# Altium schematic symbol library Schlib1.SchLib: 19 symbols
Pins are listed as number, name and electrical type; pins without a type are passive.

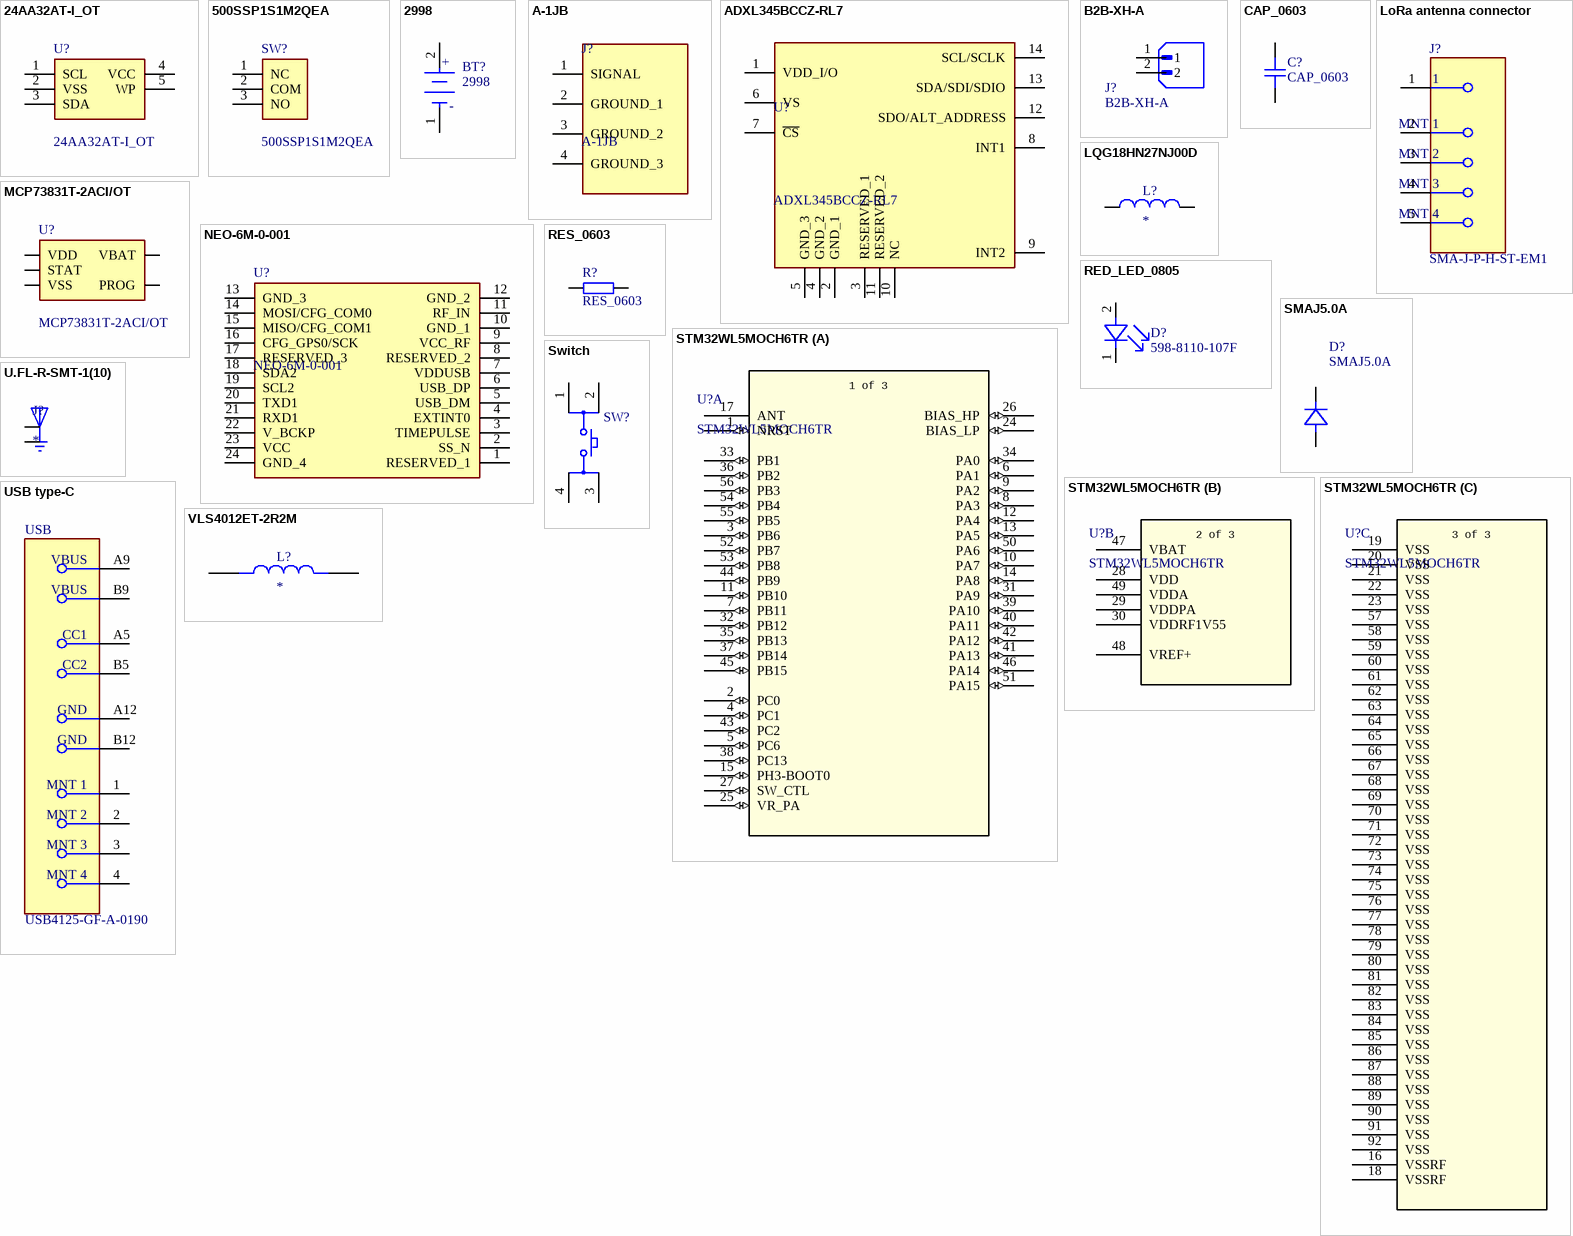
[diagram p0: symbols 24AA32AT-I_OT to VLS4012ET-2R2M]

## 24AA32AT-I_OT
designator U?
Microchip 24AA32AT-I/OT Serial EEPROM Memory, 32kbit, 1000ns, 1.7  5.5 V 5-Pin SOT-23; Geometry.Height: 1.45mm; Manufacturer_Name: Microchip; Manufacturer_Part_Number: 24AA32AT-I/OT; Mouser Part Number: 579-24AA32AT-I/OT; Mouser Price/Stock: https://www.mouser.co.uk/ProductDetail/Microchip-Technology/24AA32AT-I-OT?qs=WqWCsLCZBkoI2hN6jgMPOQ%3D%3D; Arrow Part Number: 24AA32AT-I/OT; Arrow Price/Stock: https://www.arrow.com/en/products/24aa32at-iot/microchip-technology?utm_currency=USD&region=nac; Datasheet Link: http://ww1.microchip.com/downloads/en/DeviceDoc/21713M.pdf
footprint SOT95P270X145-5N
pins: 1 SCL, 2 VSS, 3 SDA, 4 VCC, 5 WP

## 500SSP1S1M2QEA
designator SW?
SLIDE, 5A, 120VAC/28VDC SPDT, On-On Through Hole; Manufacturer_Name: E-Switch; Geometry.Height: 11.43mm; Manufacturer_Part_Number: 500SSP1S1M2QEA; Mouser Part Number: 612-500-A121; Mouser Price/Stock: https://www.mouser.co.uk/ProductDetail/E-Switch/500SSP1S1M2QEA?qs=rR7wk9eDIwofjM3j2mZRnA%3D%3D; Arrow Part Number: *; Arrow Price/Stock: *; Datasheet Link: https://configured-product-images.s3.amazonaws.com/2D/specs/500SSP1S1M2QEA.pdf
footprint 500SSP1S1M2QEA
pins: 1 NC, 2 COM, 3 NO

## 2998
designator BT?
BATTERY RETAINER COIN 6.8MM SMD; Number of Batteries: 1; Package Quantity: 100; Mount: Surface Mount; Case/Package: SMD/SMT; Number of Cells: 1; REACH SVHC: No SVHC; Height: 2.9mm; Contact Material: Bronze; Material: Bronze; Lead Free: Lead Free; Termination: SMD/SMT; Color: Silver
footprint BAT_2998TR
pins: 1 C, 2 A
text: +; -

## A-1JB
designator J?
U.FL (UMCC), AMC Connector Jack, Male Pin 50 Ohms Surface Mount Solder; Manufacturer_Name: Amphenol RF; Geometry.Height: 1.35mm; Manufacturer_Part_Number: A-1JB; Mouser Part Number: 523-A-1JB; Mouser Price/Stock: https://www.mouser.co.uk/ProductDetail/Amphenol-RF/A-1JB?qs=ncxkyCpAYDBidtvTkuzl1Q%3D%3D; Arrow Part Number: A-1JB; Arrow Price/Stock: https://www.arrow.com/en/products/a-1jb/amphenol-rf?utm_currency=USD&region=europe; Datasheet Link: https://s3-us-west-2.amazonaws.com/catsy.582/ca-1jb.pdf
footprint A1JB
pins: 1 SIGNAL, 2 GROUND_1, 3 GROUND_2, 4 GROUND_3

## ADXL345BCCZ-RL7
designator U?
ADXL345BCCZ-RL7 Analog Devices, 3-Axis Accelerometer, I2C, SPI, 14-Pin LGA 0.3 V to +3.9 V 40C to +105C; Geometry.Height: 1mm; Manufacturer_Name: Analog Devices; Manufacturer_Part_Number: ADXL345BCCZ-RL7; Mouser Part Number: 584-ADXL345BCCZ-R7; Mouser Price/Stock: https://www.mouser.co.uk/ProductDetail/Analog-Devices/ADXL345BCCZ-RL7?qs=WIvQP4zGaninp9Gc%252BCsJzQ%3D%3D; Arrow Part Number: ADXL345BCCZ-RL7; Arrow Price/Stock: https://www.arrow.com/en/products/adxl345bccz-rl7/analog-devices?utm_currency=USD&region=nac; Datasheet Link: https://www.analog.com/media/en/technical-documentation/data-sheets/adxl345.pdf
footprint ADXL345BCCZRL7
pins: 1 VDD_I/O, 2 GND_1, 3 RESERVED_1, 4 GND_2, 5 GND_3, 6 VS, 7 ~{CS}, 8 INT1, 9 INT2, 10 NC, 11 RESERVED_2, 12 SDO/ALT_ADDRESS, 13 SDA/SDI/SDIO, 14 SCL/SCLK

## B2B-XH-A
designator J?
MF: {'manufacturer': u'JST Sales America Inc.'}; Package: None; Price: None; Value: *; MP: B2B-XH-A; Availability: Unavailable
footprint JST_B2B-XH-A
pins: 1, 2

## CAP_0603
designator C?
Ceramic Capacitor SMD 0603; Manufacturer: *; Manufacturer Part Number: *; Distributor Link: *; LCSC: *; Rating: *; Dielectric: *
footprint CAP_0603
pins: 1, 2

## LoRa antenna connector
designator J?, comment SMA-J-P-H-ST-EM1
CONN SMA JACK STR 50OHM EDGE MNT, Use the ANT-SS900; Dielectric Material: PTFE; Center Contact Plating: Gold; Max Frequency: 6GHz; Body Material: Brass; Voltage Rating: 335V; Impedance: 50R; Package Quantity: 1; Case/Package: SMA; Max Operating Temperature: 125°C; Fastening Type: Threaded; Orientation: Straight; Depth: 13.33mm; RoHS Compliant: Yes; Length: 6.35mm; Insulation Material: Polytetrafluoroethylene; Termination: Solder; Min Operating Temperature: -65°C; Housing Color: Gold; Contact Plating: Gold; Contact Material: Copper; Connector Type: SMA; Mount: Edge; Series: SMA; Packaging: Tray; Body Plating: Gold; Radiation Hardening: No
footprint FP-SMA-J-P-H-ST-EM1-MFG
pins: 1, 2 MNT 1, 3 MNT 2, 4 MNT 3, 5 MNT 4

## LQG18HN27NJ00D
designator L?
Ind RF Chip Multi-Layer 27nH 5% 100MHz 12Q-Factor Air 300mA 0603 Paper T/R; MP: LQG18HN27NJ00D; Package: None; Price: None; Value: *; Availability: Unavailable
footprint CAP_0603
pins: 1, 2

## MCP73831T-2ACI/OT
designator U?
Li-Ion Charge Controller 4.2V SOT23-5; Manufacturer_Name: Microchip; Geometry.Height: 1.45mm; Mouser Part Number: 579-MCP73831T-2ACIOT; Mouser Price/Stock: https://www.mouser.co.uk/ProductDetail/Microchip-Technology/MCP73831T-2ACI-OT?qs=yUQqVecv4qvbBQBGbHx0Mw%3D%3D; Manufacturer_Part_Number: MCP73831T-2ACI/OT; Datasheet Link: http://ww1.microchip.com/downloads/en/DeviceDoc/20001984g.pdf
footprint SOT95P270X145-5N
pins: 1 STAT, 2 VSS, 3 VBAT, 4 VDD, 5 PROG

## NEO-6M-0-001
designator U?
GPS Module; Manufacturer_Name: u-blox; Geometry.Height: 2.6mm; Manufacturer_Part_Number: NEO-6M-0-001; Mouser Part Number: *; Mouser Price/Stock: *; Arrow Part Number: *; Arrow Price/Stock: *; Datasheet Link: https://www.u-blox.com/sites/default/files/products/documents/NEO-6_DataSheet_%28GPS.G6-HW-09005%29.pdf
footprint NEO6M0001
pins: 1 RESERVED_1, 2 SS_N, 3 TIMEPULSE, 4 EXTINT0, 5 USB_DM, 6 USB_DP, 7 VDDUSB, 8 RESERVED_2, 9 VCC_RF, 10 GND_1, 11 RF_IN, 12 GND_2, 13 GND_3, 14 MOSI/CFG_COM0, 15 MISO/CFG_COM1, 16 CFG_GPS0/SCK, 17 RESERVED_3, 18 SDA2, 19 SCL2, 20 TXD1, 21 RXD1, 22 V_BCKP, 23 VCC, 24 GND_4

## RED_LED_0805
designator D?, comment 598-8110-107F
598-8110-107F 598-8110-107F, Dialight, SMD LED 0805 Package, Red Single color SOLD IN INCREMENTS OF 4000. (REEL); NexarPartId: 868569; Wavelength: 635nm; Forward Current: 20mA; Lens Style: Clear; Forward Voltage: 2.2V; Power Dissipation: 60mW; Max Junction Temperature (Tj): 105°C; Luminous Intensity: 40mcd; Viewing Angle: 140°; Reverse Voltage: 5V; Number of LEDs: 1; Number of Pins: 2; Schedule B: 8541402000, 8541402000|8541402000, 8541402000|8541402000|8541402000, 8541402000|8541402000|8541402000|8541402000; Length: 2mm; Width: 1.25mm; Mount: Surface Mount; Height: 800µm; Case Code (Imperial): 0805; Case Code (Metric): 2012; RoHS: Compliant; Min Operating Temperature: -30°C; Color: Red; Case/Package: 0805; Depth: 1.25mm; Lead Free: Lead Free; Max Operating Temperature: 85°C; Test Current: 20mA; Illumination Color: Red; Number of Elements: 1; Dominant Wavelength: 635nm; REACH SVHC: No SVHC; Radiation Hardening: No
footprint RED_LED_0805
pins: 1 C, 2 A

## RES_0603
designator R?
Resistor SMD 0603; Manufacturer: *; Manufacturer Part Number: *; Distributor Link: *; LCSC: *
footprint RES_0603
pins: 1, 2

## SMAJ5.0A
designator D?
ESD Protection Diode; Manufacturer_Name: Littelfuse Inc; Copyright: Copyright (C) 2025 Ultra Librarian. All rights reserved.; Manufacturer_Part_Number: SMAJ5.0A
footprint SMASeries_LTF-M
pins: 1, 2

## STM32WL5MOCH6TR
designator U?
Multiprotocol LPWAN dual-core module 32-bit Arm Cortex-M4/M0+ LoRa,(G)FSK, (G)MSK, BPSK; Manufacturer_Name: STMicroelectronics; Copyright: Copyright (C) 2026 Ultra Librarian. All rights reserved.; Manufacturer_Part_Number: STM32WL5MOCH6TR; Datasheet: https://www.st.com/resource/en/datasheet/stm32wl5moc.pdf; RefDes: RefDes; Type: Type
footprint LGA-92_10X10_STM
part A pins: 1 NRST (io), 2 PC0 (io), 3 PB6 (io), 4 PC1 (io), 5 PC6 (io), 6 PA1 (io), 7 PB11 (io), 8 PA3 (io), 9 PA2 (io), 10 PA7 (io), 11 PB10 (io), 12 PA4 (io), 13 PA5 (io), 14 PA8 (io), 15 PH3-BOOT0 (io), 17 ANT, 24 BIAS_LP (io), 25 VR_PA (io), 26 BIAS_HP (io), 27 SW_CTL (io), 31 PA9 (io), 32 PB12 (io), 33 PB1 (io), 34 PA0 (io), 35 PB13 (io), 36 PB2 (io), 37 PB14 (io), 38 PC13 (io), 39 PA10 (io), 40 PA11 (io), 41 PA13 (io), 42 PA12 (io), 43 PC2 (io), 44 PB9 (io), 45 PB15 (io), 46 PA14 (io), 50 PA6 (io), 51 PA15 (io), 52 PB7 (io), 53 PB8 (io), 54 PB4 (io), 55 PB5 (io), 56 PB3 (io)
part B pins: 28 VDD (power), 29 VDDPA (power), 30 VDDRF1V55 (power), 47 VBAT (power), 48 VREF+ (power), 49 VDDA (power)
part C pins: 16 VSSRF (power), 18 VSSRF (power), 19 VSS (power), 20 VSS (power), 21 VSS (power), 22 VSS (power), 23 VSS (power), 57 VSS (power), 58 VSS (power), 59 VSS (power), 60 VSS (power), 61 VSS (power), 62 VSS (power), 63 VSS (power), 64 VSS (power), 65 VSS (power), 66 VSS (power), 67 VSS (power), 68 VSS (power), 69 VSS (power), 70 VSS (power), 71 VSS (power), 72 VSS (power), 73 VSS (power), 74 VSS (power), 75 VSS (power), 76 VSS (power), 77 VSS (power), 78 VSS (power), 79 VSS (power), 80 VSS (power), 81 VSS (power), 82 VSS (power), 83 VSS (power), 84 VSS (power), 85 VSS (power), 86 VSS (power), 87 VSS (power), 88 VSS (power), 89 VSS (power), 90 VSS (power), 91 VSS (power), 92 VSS (power)
part A text: 1 of 3
part B text: 2 of 3
part C text: 3 of 3

## Switch
designator SW?, comment TL3301AF160QG  (value not drawn)
SWITCH TACTILE SPST-NO 0.05A 12V; Actuator Type: Standard; Current Rating: 50mA; Contact Resistance: 100mR; Max Voltage Rating (DC): 50V; Actuator Length: 1.4mm; Electrical Life: 100000Cycles; Throw Configuration: SPST; Switch Travel: 0.25mm; Operating Force: 160gf; Switch Function: Off-Mom; Actuator Material: Nylon; Illumination Type: Non-Illuminated; Orientation: Straight; Lead Free: Lead Free; Contact Material: Silver; Series: TL3301; Mount: Surface Mount; Voltage Rating: 50V; REACH SVHC: No SVHC; Voltage Rating (DC): 12V; Packaging: Tape and Reel; Termination: Gull Wing; RoHS Compliant: Yes; Min Operating Temperature: -20°C; Package Quantity: 1000; Mechanical Life: 100000Cycles; Contact Plating: Silver; Max Operating Temperature: 70°C; Insulation Resistance: 100MR
footprint FP-TL3301AF160QG-MFG
pins: 1, 2, 3, 4

## U.FL-R-SMT-1(10)
designator J?
U.FL Series 6 Ghz 50 Ohm Ultra-small SMT Coaxial Cable Receptacle; MP: U.FL-R-SMT-1(10); Availability: Unavailable; Value: *; Price: None; Package: None
footprint HRS_U.FL-R-SMT-1(10)
pins: 1 GND, 2 SIG, 3 GND

## USB type-C
designator USB, comment USB4125-GF-A-0190
CONN RCPT TYPE C 6P SMD RA
footprint FP-USB4125-GF-A-0190-MFG
pins: 1 MNT 1, 2 MNT 2, 3 MNT 3, 4 MNT 4, A5 CC1, A9 VBUS, A12 GND, B5 CC2, B9 VBUS, B12 GND

## VLS4012ET-2R2M
designator L?
INDUCTOR, 2.2UH, 2.2A, 20%, SMD; Product Range:TDK - VLS-E Series; Inductance:2.2ÂµH; Inductance Tolerance:Â± 20%; Inductor Construction:Shielded; DC Resistance Max:0.081ohm; RMS Current (Irms):2.2A; Saturation Current (Isat):1.9A; Case Dimensions:4mm x 4mm x 1.2mm; SVHC:No SVHC (20-Jun-2013); MP: VLS4012ET-2R2M; MF: TDK; Package: NON STANDARD-2 TDK; SnapEDA_Link: https://www.snapeda.com/parts/VLS4012ET-2R2M/TDK/view-part/?ref=snap; Value: *; Purchase-URL: https://pricing.snapeda.com/search/part/VLS4012ET-2R2M/?ref=eda; Check_prices: https://www.snapeda.com/parts/VLS4012ET-2R2M/TDK/view-part/?ref=eda; Availability: In Stock; Price: None
footprint IND_VLS4012ET-2R2M
pins: 1, 2